# Altium schematic symbol library TP_Keystone_Electronics_5006.SchLib: 1 symbol
Pins are listed as number, name and electrical type; pins without a type are passive.

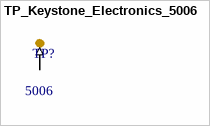
[diagram p0: symbol TP_Keystone_Electronics_5006]

## TP_Keystone_Electronics_5006
designator TP?  Series: 5006  (hidden comment: TP_Keystone_Electronics_5006)
Circuit Board Hardware - PCB TEST POINT BLK .063; Supplier 1: Mouser; Supplier Part Number 1: 534-5006
footprint TP_Keystone_Electronics_5006
pins: 1 (in)